# EAGLE library part 8PIN-SMD-2.54MM_1 (library CYCFI_Con)
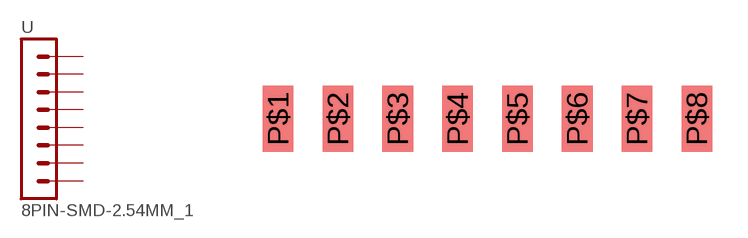
[diagram p9: symbol with the pads of 8P-SMD-2.54_1; footprint 8P-SMD-2.54_1]

Designator prefix -

## 8PIN-SMD-2.54MM_1  [8P-SMD-2.54_1]
P$1  1  pas
P$2  2  pas
P$3  3  pas
P$4  4  pas
P$5  5  pas
P$6  6  pas
P$7  7  pas
P$8  8  pas

## Footprint 8P-SMD-2.54_1 (pad centres in mm)
smd 1.3 x 2.8: P$1 -8.89,0; P$2 -6.35,0; P$3 -3.81,0; P$4 -1.27,0; P$5 1.27,0; P$6 3.81,0; P$7 6.35,0; P$8 8.89,0